# EAGLE library part PBU4U_S (library switch-e-switch)
4PDT PUSHBUTTON SWITCH
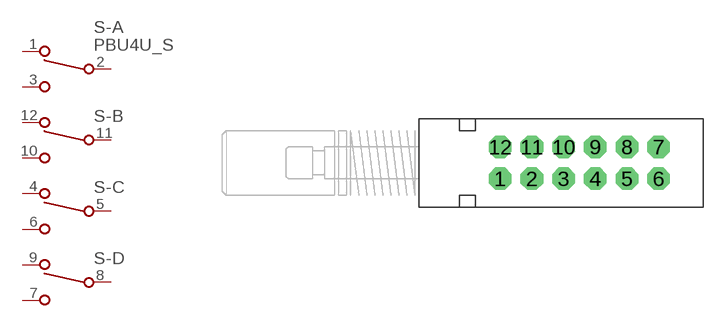
[diagram p9: symbol with the pads of PBH4U; footprint PBH4U]

Designator prefix S; gates -A=1PDT-NV -B=1PDT-N -C=1PDT-N -D=1PDT-N

## PBU4U_S  [PBH4U]
1  -A:A-NC  pas
2  -A:A-COM  pas
3  -A:A-NO  pas
4  -C:A-NC  pas
5  -C:A-COM  pas
6  -C:A-NO  pas
7  -D:A-NO  pas
8  -D:A-COM  pas
9  -D:A-NC  pas
10  -B:A-NO  pas
11  -B:A-COM  pas
12  -B:A-NC  pas

## Footprint PBH4U (pad centres in mm)
Pushbutton Switch PBH Series
drill 0.813 pad 1.778 octagon: 1 -2.5,-1.25; 2 0,-1.25; 3 2.5,-1.25; 4 5,-1.25; 5 7.5,-1.25; 6 10,-1.25; 7 10,1.25; 8 7.5,1.25; 9 5,1.25; 10 2.5,1.25; 11 0,1.25; 12 -2.5,1.25